# EAGLE library part MOSFET_COMPLIMENTARY_PAIR (library discrete)
Complementary pair enhancement mode MOSFET 1A and 4A A P and N channel MOSFET in a single package. Rated to breakdown at 20V. DMC2700 is 1A. SIL2308 is 4A. Link to datasheet <http://www.diodes.com/_files/datasheets/DMC2700UDM.pdf> SparkFun Products: ZX Distance and Gesture Sensor <https://www.sparkfun.com/products/12780>
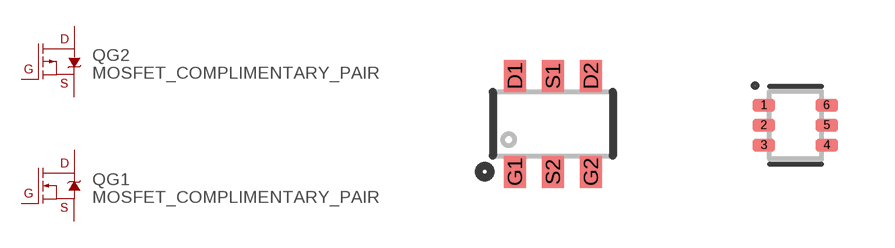
[diagram p3: symbol with the pads of SOT26; footprints SOT26, SOT563]

Designator prefix Q; gates G1=LABELED-NMOS G2=LABELED-PMOS

## MOSFET_COMPLIMENTARY_PAIR-DMC2700UDM (PROD_ID: TRANS-11993)  [SOT26]
D1  G1:D
D2  G2:D
G1  G1:G
G2  G2:G
S1  G1:S
S2  G2:S

## MOSFET_COMPLIMENTARY_PAIR-SIL2308 (PROD_ID: TRANS-15717)  [SOT26]
Pads as for SOT26

## MOSFET_COMPLIMENTARY_PAIR-NX1029X,115 (PROD_ID: IC-15419; VALUE: NX1029X,115)  [SOT563]
1  G1:S
2  G1:G
3  G2:D
4  G2:S
5  G2:G
6  G1:D

## Footprint SOT26 (pad centres in mm)
Footprint for SOT-26 part DMP2240UDM
smd 0.55 x 0.8: D1 -0.95,1.2; D2 0.95,1.2; G1 -0.95,-1.2; G2 0.95,-1.2; S1 0,1.2; S2 0,-1.2

## Footprint SOT563 (pad centres in mm)
smd 0.56 x 0.32: 1 -0.785,0.5; 2 -0.785,0; 3 -0.785,-0.5; 4 0.785,-0.5; 5 0.785,0; 6 0.785,0.5